# EAGLE library part ADS112C04 (library ADS112C04)
Texas Instrument ADS112C04 16 Bit ADC
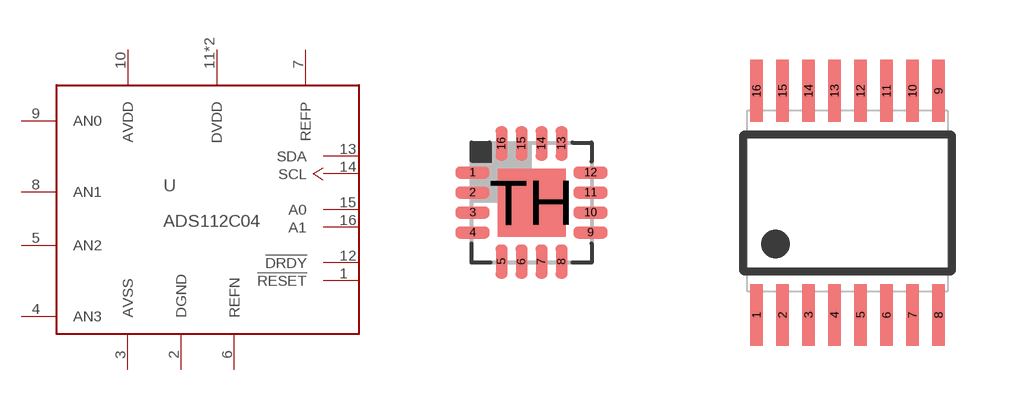
[diagram p0: symbol with the pads of QFN16; footprints QFN16, TEXAS_TSSOP16]

Designator prefix U

## ADS112C04IRTET  [QFN16]
1  !RESET
2  DGND  pwr
3  AVSS  pwr
4  AN3  in
5  AN2  in
6  REFN
7  REFP
8  AN1  in
9  AN0  in
10  AVDD  pwr
11  DVDD  pwr
12  !DRDY
13  SDA
14  SCL
15  A0
16  A1
TH  DVDD  pwr

## ADS112C04IPW  [TEXAS_TSSOP16]
1  A0
2  A1
3  !RESET
4  DGND  pwr
5  AVSS  pwr
6  AN3  in
7  AN2  in
8  REFN
9  REFP
10  AN1  in
11  AN0  in
12  AVDD  pwr
13  DVDD  pwr
14  !DRDY
15  SDA
16  SCL

## Footprint QFN16 (pad centres in mm)
RTE (S-PQFP-N16) 3x3 mm Source: www.ti.com .. tpa6132a2 direct path stereo $.65.pdf
smd 0.85 x 0.3: 1 -1.475,0.75; 2 -1.475,0.25; 3 -1.475,-0.25; 4 -1.475,-0.75; 9 1.475,-0.75; 10 1.475,-0.25; 11 1.475,0.25; 12 1.475,0.75
smd 0.3 x 0.85: 5 -0.75,-1.475; 6 -0.25,-1.475; 7 0.25,-1.475; 8 0.75,-1.475; 13 0.75,1.475; 14 0.25,1.475; 15 -0.25,1.475; 16 -0.75,1.475
smd 1.7 x 1.7: TH 0,0

## Footprint TEXAS_TSSOP16 (pad centres in mm)
Thin Shrink Small Outline Plastic 16
smd 0.31 x 1.55: 1 -2.275,-2.8; 2 -1.625,-2.8; 3 -0.975,-2.8; 4 -0.325,-2.8; 5 0.325,-2.8; 6 0.975,-2.8; 7 1.625,-2.8; 8 2.275,-2.8; 9 2.275,2.8; 10 1.625,2.8; 11 0.975,2.8; 12 0.325,2.8; 13 -0.325,2.8; 14 -0.975,2.8; 15 -1.625,2.8; 16 -2.275,2.8